# EAGLE library part FAN7390MX (library fairchild-semi)
High-Current, High & Low Side Gate-Driver
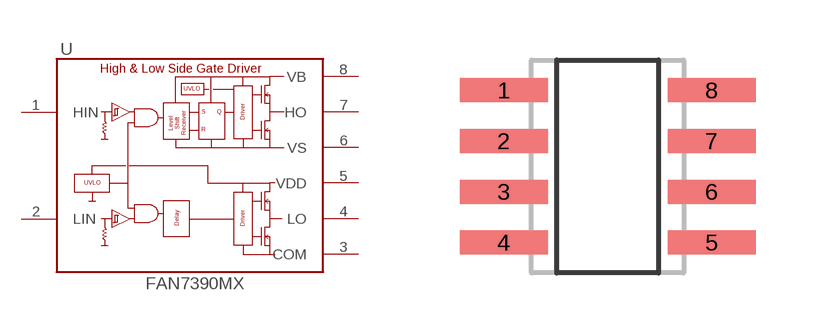
[diagram p0: symbol with the pads of SO08; footprint SO08]

Designator prefix U

## FAN7390MX (P1I: o)  [SO08]
1  HIN
2  LIN
3  COM
4  LO
5  VDD
6  VS
7  HO
8  VB

## Footprint SO08 (pad centres in mm)
SMALL OUTLINE INTEGRATED CIRCUIT body 3.9 mm/JEDEC MS-012AA
smd 2.2 x 0.6: 1 -2.6,1.905; 2 -2.6,0.635; 3 -2.6,-0.635; 4 -2.6,-1.905; 5 2.6,-1.905; 6 2.6,-0.635; 7 2.6,0.635; 8 2.6,1.905